# Altium schematic symbol library 20A_Fuse.SchLib: 1 symbol
Pins are listed as number, name and electrical type; pins without a type are passive.

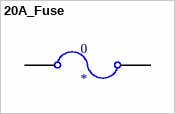
[diagram p0: symbol 20A_Fuse]

## 20A_Fuse
designator 0
footprint 20A_Fuse
pins: 0, 1